# Altium schematic symbol library PEPLLIB.SchLib: 81 symbols
Pins are listed as number, name and electrical type; pins without a type are passive.

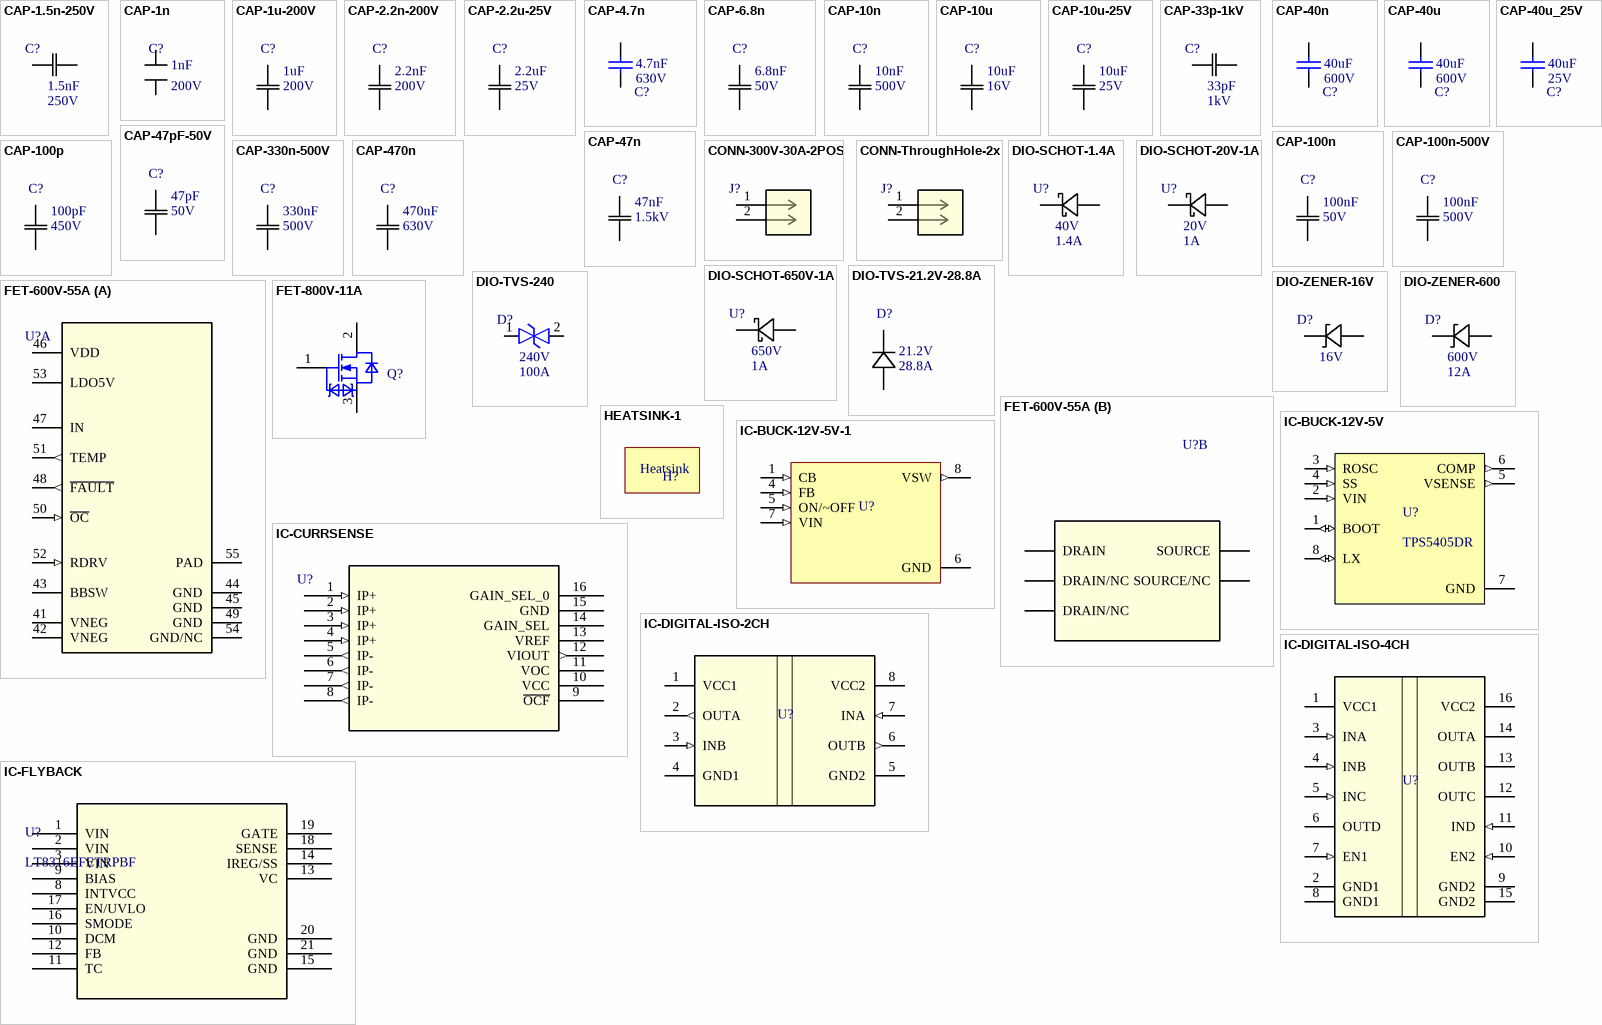
[diagram p0: symbols CAP-1.5n-250V to IC-FLYBACK]

## CAP-1.5n-250V
designator C?, comment Parameter 1: 1.5nF  Parameter 2: 250V  (hidden comment: C0603C152JAGACAUTO)
1500 pF ±5% 250V Ceramic Capacitor C0G, NP0 0603 (1608 Metric); Manufacturer_Name: Kemet; Manufacturer_Part_Number: C0805C330JDGACTU; Copyright: Copyright (C) 2025 Ultra Librarian. All rights reserved.; Datasheet: 1500 pF ±5% 250V Ceramic Capacitor C0G, NP0 0603 (1608 Metric)
footprint CAPC17595_92N_KEM
pins: 1, 2

## CAP-1n
designator C?, comment value 1nF  Parameter 1: 200V  (hidden comment: C1206C102J2GACTU)
1000 pF ±5% 200V Ceramic Capacitor C0G, NP0 1206 (3216 Metric); MF: KEMET; SnapEDA_Link: https://www.snapeda.com/parts/C1206C102J2GACTU/KEMET/view-part/?ref=snap; Package: 3216 KEMET; MP: C1206C102J2GACTU; Check_prices: https://www.snapeda.com/parts/C1206C102J2GACTU/KEMET/view-part/?ref=eda; ComponentLink1Description: Datasheet; ComponentLink1URL: https://search.kemet.com/download/datasheet/C1206C102J2GAC7800
footprint CAPC3216X88N
pins: 1, 2

## CAP-1u-200V
designator C?, comment Capacitance: 1uF  Voltage: 200V  (hidden comment: 18122C105KAT2A)
1 µF ±10% 200V Ceramic Capacitor X7R 1812 (4532 Metric); Mfr_Name: Yageo; ComponentLink1Description: Datasheet; ComponentLink1URL: https://datasheets.kyocera-avx.com/KGM_X7R.pdf
footprint CAPC4532X279N
pins: 1, 2

## CAP-2.2n-200V
designator C?, comment Capacitance: 2.2nF  Voltage: 200V  (hidden comment: C0603C222J2GACTU)
2200 pF ±5% 200V Ceramic Capacitor C0G, NP0 0603 (1608 Metric); Mfr_Name: Yageo; ComponentLink1Description: Datasheet; ComponentLink1URL: https://search.kemet.com/download/datasheet/C0603C222J2GAC7867
footprint CAPC17595_92N_KEM
pins: 1, 2

## CAP-2.2u-25V
designator C?, comment Capacitance: 2.2uF  Voltage: 25V  (hidden comment: GRM155R61E225KE11D)
2.2 µF ±10% 25V Ceramic Capacitor X5R 0402 (1005 Metric); Mfr_Name: Yageo; ComponentLink1Description: Datasheet; ComponentLink1URL: https://search.kemet.com/download/datasheet/C0603C222J2GAC7867
footprint CAPC1005X70N
pins: 1, 2

## CAP-4.7n
designator C?, comment Voltage: 630V  Capacitance: 4.7nF  (hidden comment: CC1206JKNPOZBN472)
4700 pF ±5% 630V Ceramic Capacitor C0G, NP0 1206 (3216 Metric); Manufacturer Part Number: 890764428004CS; Manufacturer: Wurth Elektronik; Match Code: WCAP-FTDB; Dissipation Factor @1kHz: 0.2%; Insulation Resistance: 250MOhm; Pitch: 37.5mm; Rate of Voltage Rise: 30V/us; Rated Voltage (DC): 600V; Technical Reference: MDBP375406J600DCPP15040; Category: Film Capacitors; ComponentLink2Description: Datasheet Link; ComponentLink2URL: https://www.yageo.com/upload/media/product/app/datasheet/mlcc/upy-np0x7r_hv_500v-to-3kv.pdf; Mount: Through Hole; Operating Temperature Max: 105°C; Operating Temperature Min: -40°C; Packaging: Carton; Length: 42mm; Width: 30mm; Height: 45mm
footprint CAPC3216X88N
pins: 1, 2

## CAP-6.8n
designator C?, comment Voltage: 50V  Capacitance: 6.8nF  (hidden comment: C0603C682F5GACTU)
6800 pF ±1% 50V Ceramic Capacitor C0G, NP0 0603 (1608 Metric); Mfr_Name: Kemet; ComponentLink1Description: Datasheet; ComponentLink1URL: https://search.kemet.com/download/datasheet/C0603C682F5GAC7867
footprint CAPC17595_87N_KEM
pins: 1, 2

## CAP-10n
designator C?, comment Capacitance: 10nF  Voltage: 500V  (hidden comment: VJ1206Y103KXEMT)
10000 pF ±10% 500V Ceramic Capacitor X7R 1206 (3216 Metric); Mfr_Name: Yageo; ComponentLink1Description: Datasheet; ComponentLink1URL: https://www.vishay.com/docs/45199/vjcommercialseries.pdf
footprint CAPC3216X170N (Footprint not found)
pins: 1, 2

## CAP-10u
designator C?, comment Voltage: 16V  Capacitance: 10uF  (hidden comment: GRM188C81C106MA73D)
10 µF ±20% 16V Ceramic Capacitor X6S 0603 (1608 Metric); Mfr_Name: Kemet; ComponentLink1Description: Datasheet; ComponentLink1URL: https://search.murata.co.jp/Ceramy/image/img/A01X/G101/ENG/GRM188C81C106MA73-01.pdf
footprint CAPC1608X100N
pins: 1, 2

## CAP-10u-25V
designator C?, comment Capacitance: 10uF  Voltage: 25V  (hidden comment: GRM188R61E106KA73D)
10 µF ±10% 25V Ceramic Capacitor X5R 0603 (1608 Metric); Mfr_Name: Yageo; ComponentLink1Description: Datasheet; ComponentLink1URL: https://search.murata.co.jp/Ceramy/image/img/A01X/G101/ENG/GRM188R61E106KA73-01.pdf
footprint CAPC1608X100N
pins: 1, 2

## CAP-33p-1kV
designator C?, comment Parameter 1: 33pF  Parameter 2: 1kV  (hidden comment: C0805C330JDGACTU)
SMD Comm C0G HV, Ceramic, 33 pF, 5%, 1000 VDC, C0G, SMD, MLCC, Ultra-Stable, Low Loss, Class I, 0805; Manufacturer_Name: Kemet; Copyright: Copyright (C) 2025 Ultra Librarian. All rights reserved.; Manufacturer_Part_Number: C0805C330JDGACTU; Datasheet: https://search.kemet.com/download/datasheet/C0805C330JDGAC7800
footprint CAPC220145_140N_KEM-L
pins: 1, 2

## CAP-40n
designator C?, comment Voltage: 600V  Capacitance: 40uF  (hidden comment: C4532C0G2E473J320KA)
0.047 µF ±5% 250V Ceramic Capacitor C0G, NP0 1812 (4532 Metric); Manufacturer Part Number: 890764428004CS; Manufacturer: Wurth Elektronik; Match Code: WCAP-FTDB; Dissipation Factor @1kHz: 0.2%; Insulation Resistance: 250MOhm; Pitch: 37.5mm; Rate of Voltage Rise: 30V/us; Technical Reference: MDBP375406J600DCPP15040; Category: Film Capacitors; ComponentLink2Description: Datasheet; ComponentLink2URL: https://product.tdk.com/en/system/files/dam/doc/product/capacitor/ceramic/mlcc/catalog/mlcc_commercial_midvoltage_en.pdf; Mount: Through Hole; Operating Temperature Max: 105°C; Operating Temperature Min: -40°C; Packaging: Carton; Length: 42mm; Width: 30mm; Height: 45mm; Rated Voltage (DC): 600V
footprint CAP_C4532C0G2E473J320KA
pins: 1, 2

## CAP-40u
designator C?, comment Voltage: 600V  Capacitance: 40uF  (hidden comment: 890764428004CS)
40 µF Film Capacitor 600V Polypropylene (PP), Metallized Radial - 4 Leads; Manufacturer: Wurth Elektronik; Match Code: WCAP-FTDB; Dissipation Factor @1kHz: 0.2%; Insulation Resistance: 250MOhm; Pitch: 37.5mm; Rate of Voltage Rise: 30V/us; Technical Reference: MDBP375406J600DCPP15040; Manufacturer Part Number: 890764428004CS; Category: Film Capacitors; ComponentLink1Description: Website Link; ComponentLink1URL: https://www.we-online.com/redexpert/article/890764428004CS?ad; ComponentLink2Description: Datasheet Link; ComponentLink2URL: https://www.we-online.com/redexpert/spec/890764428004CS?ad; Mount: Through Hole; Operating Temperature Max: 105°C; Operating Temperature Min: -40°C; Packaging: Carton; Length: 42mm; Width: 30mm; Height: 45mm; Rated Voltage (DC): 600V
footprint WCAP-FTDB_L42W30H45
simulation model 890764428004CS_40uF
pins: 1, 2

## CAP-40u_25V
designator C?, comment Voltage: 25V  Capacitance: 40uF  (hidden comment: C3216X5R1E476M160AC)
47 µF ±20% 25V Ceramic Capacitor X5R 1206 (3216 Metric); Manufacturer Part Number: 890764428004CS; Manufacturer: Wurth Elektronik; Match Code: WCAP-FTDB; Dissipation Factor @1kHz: 0.2%; Insulation Resistance: 250MOhm; Pitch: 37.5mm; Rate of Voltage Rise: 30V/us; Rated Voltage (DC): 600V; Technical Reference: MDBP375406J600DCPP15040; Category: Film Capacitors; ComponentLink2Description: Datasheet Link; ComponentLink2URL: https://product.tdk.com/system/files/dam/doc/product/capacitor/ceramic/mlcc/catalog/mlcc_commercial_general_en.pdf; Mount: Through Hole; Operating Temperature Max: 105°C; Operating Temperature Min: -40°C; Packaging: Carton; Length: 42mm; Width: 30mm; Height: 45mm
footprint CAPC3216X180N
pins: 1, 2

## CAP-47n
designator C?, comment Voltage: 1.5kV  Capacitance: 47nF  (hidden comment: C330C473KFR5TA)
0.047 µF ±10% 1500V (1.5kV) Ceramic Capacitor X7R Radial; Mfr_Name: Kemet; ComponentLink1Description: Datasheet; ComponentLink1URL: https://search.kemet.com/download/datasheet/C330C473KFR5TA
footprint CAP_C330_MR_X7R_HV_KEM
pins: 1, 2

## CAP-47pF-50V
designator C?, comment Capacitance: 47pF  Voltage: 50V  (hidden comment: C0402C470F5GACTU)
47 pF ±1% 50V Ceramic Capacitor C0G, NP0 0402 (1005 Metric); Mfr_Name: Yageo; ComponentLink1Description: Datasheet; ComponentLink1URL: https://search.kemet.com/download/datasheet/C0402C470F5GAC7867
footprint CAPC10555_55N_KEM
pins: 1, 2

## CAP-100n
designator C?, comment Capacitance: 100nF  Voltage: 50V  (hidden comment: CC0603KRX7R9BB104)
0.1 µF ±10% 50V Ceramic Capacitor X7R 0603 (1608 Metric); Mfr_Name: Yageo; ComponentLink1Description: Datasheet; ComponentLink1URL: https://www.yageo.com/upload/media/product/productsearch/datasheet/mlcc/UPY-GPHC_X7R_6.3V-to-250V_24.pdf
footprint YAG_CC0603_YAG
pins: 1, 2

## CAP-100n-500V
designator C?, comment Capacitance: 100nF  Voltage: 500V  (hidden comment: C1210C104KCRACTU)
0.1 µF ±10% 500V Ceramic Capacitor X7R 1210 (3225 Metric); Mfr_Name: Yageo; ComponentLink1Description: Datasheet; ComponentLink1URL: https://search.kemet.com/download/datasheet/C1210C104KCRAC7800
footprint CAPC340270_230N_KEM
pins: 1, 2

## CAP-100p
designator C?, comment Capacitance: 100pF  Voltage: 450V  (hidden comment: C2012C0G2W101J060AA)
100 pF ±5% 450V Ceramic Capacitor C0G, NP0 0805 (2012 Metric); Mfr_Name: Yageo; ComponentLink1Description: Datasheet; ComponentLink1URL: https://product.tdk.com/system/files/dam/doc/product/capacitor/ceramic/mlcc/catalog/mlcc_commercial_midvoltage_en.pdf
footprint CAP_2012_TDK
pins: 1, 2

## CAP-330n-500V
designator C?, comment Capacitance: 330nF  Voltage: 500V  (hidden comment: C1812C334KCRACAUTO)
0.33 µF ±10% 500V Ceramic Capacitor X7R 1812 (4532 Metric); Mfr_Name: Yageo; ComponentLink1Description: Datasheet; ComponentLink1URL: https://search.kemet.com/download/datasheet/C1812C334KCRACAUTO
footprint CAPC480350_230N_KEM
pins: 1, 2

## CAP-470n
designator C?, comment Voltage: 630V  Capacitance: 470nF  (hidden comment: GRM55DR7LV474KW01K)
0.47 µF ±10% 630V Ceramic Capacitor X7R 2220 (5750 Metric); Mfr_Name: Kemet; ComponentLink1Description: Datasheet; ComponentLink1URL: https://search.murata.co.jp/Ceramy/image/img/A01X/G101/ENG/GRM55DR7LV474KW01-00B.pdf
footprint G-55_MUR
pins: 1, 2

## CONN-300V-30A-2POS
designator J?, comment 393800102  (value not drawn)
6.35mm Pitch Beau Eurostyle Fixed Mount PCB Terminal Block, Modular, 2 Circuits; Manufacturer_Name: Molex Connector Corporation; Type: Headers, Plugs and Sockets; Copyright: Copyright (C) 2025 Ultra Librarian. All rights reserved.; Manufacturer_Part_Number: 393800102; Datasheet: https://www.molex.com/en-us/products/part-detail-pdf/393800102?display=pdf; RefDes: RefDes
footprint CONN2_0393800102_524x492_MOL
pins: 1, 2

## CONN-ThroughHole-2x
designator J?, comment Custom  (value not drawn)
1.07mm Hole Diameter; Manufacturer_Name: Molex Connector Corporation; Manufacturer_Part_Number: 393800102; Type: Headers, Plugs and Sockets; Copyright: Copyright (C) 2025 Ultra Librarian. All rights reserved.; Datasheet: https://www.molex.com/en-us/products/part-detail-pdf/393800102?display=pdf; RefDes: RefDes
footprint CONN-THROUGHHOLE
pins: 1, 2

## DIO-SCHOT-1.4A
designator U?, comment Parameter 1: 40V  Parameter 2: 1.4A  (hidden comment: CDBA140SL-HF)
Diode 40 V 1.4A Surface Mount DO-214AC (SMA); Mfr_Name: Comchip; ComponentLink1Description: Datasheet; ComponentLink1URL: https://www.comchiptech.com/admin/files/product/CDBA140SL-HF%20RevD951086.pdf
footprint CDBA-HF
pins: 1, 2

## DIO-SCHOT-20V-1A
designator U?, comment Parameter 1: 20V  Parameter 2: 1A  (hidden comment: SK12)
Diode 20 V 1A Surface Mount DO-214AC (SMA); Mfr_Name: Comchip; ComponentLink1Description: Datasheet; ComponentLink1URL: https://diotec.com/request/datasheet/sk12.pdf
footprint DO-214AC_SMA
pins: a, k

## DIO-SCHOT-650V-1A
designator U?, comment Parameter 1: 650V  Parameter 2: 1A  (hidden comment: GB01SLT06-214)
Diode 650 V 1A Surface Mount DO-214AA; Mfr_Name: Comchip; ComponentLink1Description: Datasheet; ComponentLink1URL: https://genesicsemi.com/sic-schottky-mps/GB01SLT06-214/GB01SLT06-214.pdf
footprint DIO-SHOT-650V-1A
pins: 1, 2

## DIO-TVS-21.2V-28.8A
designator D?, comment Parameter 1: 21.2V  Parameter 2: 28.8A  (hidden comment: P6SMB15A)
21.2V Clamp 28.8A Ipp Tvs Diode Surface Mount DO-214AA (SMB); Mfr_Name: Littelfuse Inc; ComponentLink1Description: Datasheet; ComponentLink1URL: https://www.bourns.com/docs/Product-Datasheets/P6SMB.pdf
footprint P6SMBSeries_LTF
pins: 1, 2

## DIO-TVS-240
designator D?, comment Standoff Voltage: 240V  Current Rating: 100A  (hidden comment: PTVS1-240C-M)
295V (Typ) Clamp 100A Ipp Tvs Diode Surface Mount; ComponentLink1Description: Datasheet; ComponentLink1URL: https://www.bourns.com/docs/product-datasheets/ptvs1-240c-m.pdf
footprint DIO-SOD128
pins: 1, 2

## DIO-ZENER-16V
designator D?, comment Parameter 2: 16V  (hidden comment: MM3Z16VT1G)
Zener Diode 16 V 300 mW ±6% Surface Mount SOD-323; Mfr_Name: STMicroelectronics; ComponentLink1Description: Datasheet; ComponentLink1URL: SOD-323_1P8X1P35_ONS-L
footprint SOD-323_1P8X1P35_ONS-L
pins: 1 A, 2 K

## DIO-ZENER-600
designator D?, comment Parameter 2: 12A  Parameter 1: 600V  (hidden comment: STTH12R06D)
Diode 600 V 12A Through Hole TO-220AC; Mfr_Name: STMicroelectronics; ComponentLink1Description: Datasheet; ComponentLink1URL: https://www.st.com/content/ccc/resource/technical/document/datasheet/cb/a3/4c/74/1c/4a/40/56/CD00002494.pdf/files/CD00002494.pdf/jcr:content/translations/en.CD00002494.pdf
footprint TO-220AC_STM
pins: 1 K, 2 A

## FET-600V-55A
designator U?, comment LMG3422R030RQZT  (value not drawn)
Power Switch/Driver 1:1 N/P-Channel 40A 54-VQFN (12x12); Mfr_Name: Texas Instruments; TYPE: TYPE; RefDes: RefDes; ComponentLink1Description: Datasheet; ComponentLink1URL: https://www.ti.com/lit/ds/symlink/lmg3422r030.pdf
footprint RQZ0054A-MFG
part A pins: 41 VNEG, 42 VNEG, 43 BBSW, 44 GND (power), 45 GND (power), 46 VDD (power), 47 IN (power), 48 ~{FAULT} (out), 49 GND (power), 50 ~{OC} (in), 51 TEMP (out), 52 RDRV (in), 53 LDO5V, 54 GND/NC (power), 55 PAD (power)
part B pins: 1 DRAIN/NC, 2,3,4,5,6,7,8,9,10,11,12,13,14,15 DRAIN, 16 DRAIN/NC, 17 SOURCE/NC, 18,19,20,21,22,23,24,25,26,27,28,29,30,31,32,33,34,35,36,37,38,39,40 SOURCE

## FET-800V-11A
designator Q?, comment IPD80R450P7  (value not drawn)
Insulated-Gate Field-Effect Transistor (IGFET), N-Channel, Enhancement, Body Diode, ESD Diode Gate/Source, Pin 1 Gate, 2 Drain, 3 Source, 3 Pins; Manufacturer: Infineon Technologies; PackageReference: PG-TO252-3-342; Manufacturer Order Number: IPD80R450P7; ComponentLink1Description: Datasheet; ComponentLink1URL: https://www.infineon.com/dgdl/Infineon-IPD80R450P7-DS-v02_00-EN.pdf?fileId=5546d4625607bd1301562e3b26963327
footprint TO229P994X256-3N-V (TO,2.29mm pitch;2 pin,9.94mm L X 6.095mm W X 2.56mm H body)
pins: 1 GATE, 2 DRAIN, 3 SOURCE

## HEATSINK-1
designator H?  (value not drawn)
footprint Heatsink-1 (DCC5923L-23B)
text: Heatsink

## IC-BUCK-12V-5V
designator U?, comment TPS5405DR
6.5V to 28V Input, 5V Fixed Output at 2A Step-Down Regulator with Intregrated MosFET; MF: Texas Instruments; SnapEDA_Link: https://www.snapeda.com/parts/TPS5405DR/Texas+Instruments/view-part/?ref=snap; Package: SOIC-8 Texas Instruments; Value: *; MP: TPS5405DR; Check_prices: https://www.snapeda.com/parts/TPS5405DR/Texas+Instruments/view-part/?ref=eda; ComponentLink1Description: Datasheet; ComponentLink1URL: https://www.ti.com/general/docs/suppproductinfo.tsp?distId=10&gotoUrl=https%3A%2F%2Fwww.ti.com%2Flit%2Fgpn%2Ftps5405
footprint SOIC127P599X175-8N
pins: 1 BOOT (io), 2 VIN (in), 3 ROSC (in), 4 SS (in), 5 VSENSE (out), 6 COMP (out), 7 GND (power), 8 LX (io)

## IC-BUCK-12V-5V-1
designator U?, comment LM2674MX-5.0/NOPB  (value not drawn)
SIMPLE SWITCHER&reg; 40V, 500mA Low Component Count Step-Down Regulator 8-SOIC -40 to 125; MF: Texas Instruments; MP: LM2674MX-5.0/NOPB; Price: None; Purchase-URL: https://pricing.snapeda.com/search/part/LM2674MX-5.0/NOPB/?ref=eda; Package: SOIC-8 Texas Instruments; Check_prices: https://www.snapeda.com/parts/LM2674MX-5.0/NOPB/Texas%20Instruments/view-part/1037916/?ref=eda; Value: *; Availability: Good; SnapEDA_Link: https://www.snapeda.com/parts/LM2674MX-5.0/NOPB/Texas%20Instruments/view-part/1037916/?ref=snap; ComponentLink1Description: Datasheet; ComponentLink1URL: https://www.ti.com/general/docs/suppproductinfo.tsp?distId=10&gotoUrl=https%3A%2F%2Fwww.ti.com%2Flit%2Fgpn%2Flm2674
footprint SOIC127P490X175-8N
pins: 1 CB (in), 4 FB (in), 5 ON/~OFF (in), 6 GND (power), 7 VIN (in), 8 VSW (out)

## IC-CURRSENSE
designator U?, comment ACS37002LLAATR-015B3  (value not drawn)
Current Sensor 15A 1 Channel Hall Effect Bidirectional 16-SOIC (0.295", 7.50mm Width); Mfr_Name: Allegro Microsystems Inc.; RefDes: RefDes; Type: Type; ComponentLink1Description: Datasheet; ComponentLink1URL: https://www.allegromicro.com/-/media/files/datasheets/acs37002-datasheet.pdf
footprint SOIC_TR-050B5_ALM
pins: 1 IP+ (in), 2 IP+ (in), 3 IP+ (in), 4 IP+ (in), 5 IP- (out), 6 IP- (out), 7 IP- (out), 8 IP- (out), 9 ~{OCF}, 10 VCC (power), 11 VOC, 12 VIOUT (out), 13 VREF (power), 14 GAIN_SEL, 15 GND (power), 16 GAIN_SEL_0

## IC-DIGITAL-ISO-2CH
designator U?, comment ISO7721FQDRQ1  (value not drawn)
General Purpose Digital Isolator 3000Vrms 2 Channel 100Mbps 85kV/µs CMTI 8-SOIC (0.154", 3.90mm Width); Mfr_Name: Texas Instruments; TYPE: TYPE; RefDes: RefDes; ComponentLink1Description: Datasheet; ComponentLink1URL: https://www.ti.com/general/docs/suppproductinfo.tsp?distId=10&gotoUrl=https%3A%2F%2Fwww.ti.com%2Flit%2Fgpn%2Fiso7720-q1
footprint D0008B_HV
pins: 1 VCC1 (power), 2 OUTA (out), 3 INB (in), 4 GND1 (power), 5 GND2 (power), 6 OUTB (out), 7 INA (in), 8 VCC2 (power)

## IC-DIGITAL-ISO-4CH
designator U?, comment ISO7741FDBQR  (value not drawn)
General Purpose Digital Isolator 3000Vrms 4 Channel 100Mbps 85kV/µs CMTI 16-SSOP (0.154", 3.90mm Width); Mfr_Name: Texas Instruments; TYPE: TYPE; RefDes: RefDes; ComponentLink1Description: Datasheet; ComponentLink1URL: https://www.ti.com/general/docs/suppproductinfo.tsp?distId=10&gotoUrl=https%3A%2F%2Fwww.ti.com%2Flit%2Fgpn%2Fiso7742
footprint DBQ0016A_L
pins: 1 VCC1 (power), 2 GND1 (power), 3 INA (in), 4 INB (in), 5 INC (in), 6 OUTD (hiz), 7 EN1 (in), 8 GND1 (power), 9 GND2 (power), 10 EN2 (in), 11 IND (in), 12 OUTC (hiz), 13 OUTB (hiz), 14 OUTA (hiz), 15 GND2 (power), 16 VCC2 (power)

## IC-FLYBACK
designator U?, comment LT8316EFETRPBF
Buck, Boost, Flyback Regulator Positive Output Step-Up, Step-Down DC-DC Controller IC 20-TSSOP-EP; Mfr_Name: Analog Devices Inc; Type: Power Management; RefDes: RefDes; ComponentLink1Description: Datasheet; ComponentLink1URL: https://www.analog.com/media/en/technical-documentation/data-sheets/LT8316.pdf
footprint 05-08-1990_ADI
pins: 1 VIN (power), 2 VIN (power), 3 VIN (power), 8 INTVCC (power), 9 BIAS (power), 10 DCM, 11 TC, 12 FB, 13 VC, 14 IREG/SS, 15 GND (power), 16 SMODE, 17 EN/UVLO, 18 SENSE, 19 GATE (power), 20 GND (power), 21 GND (power)

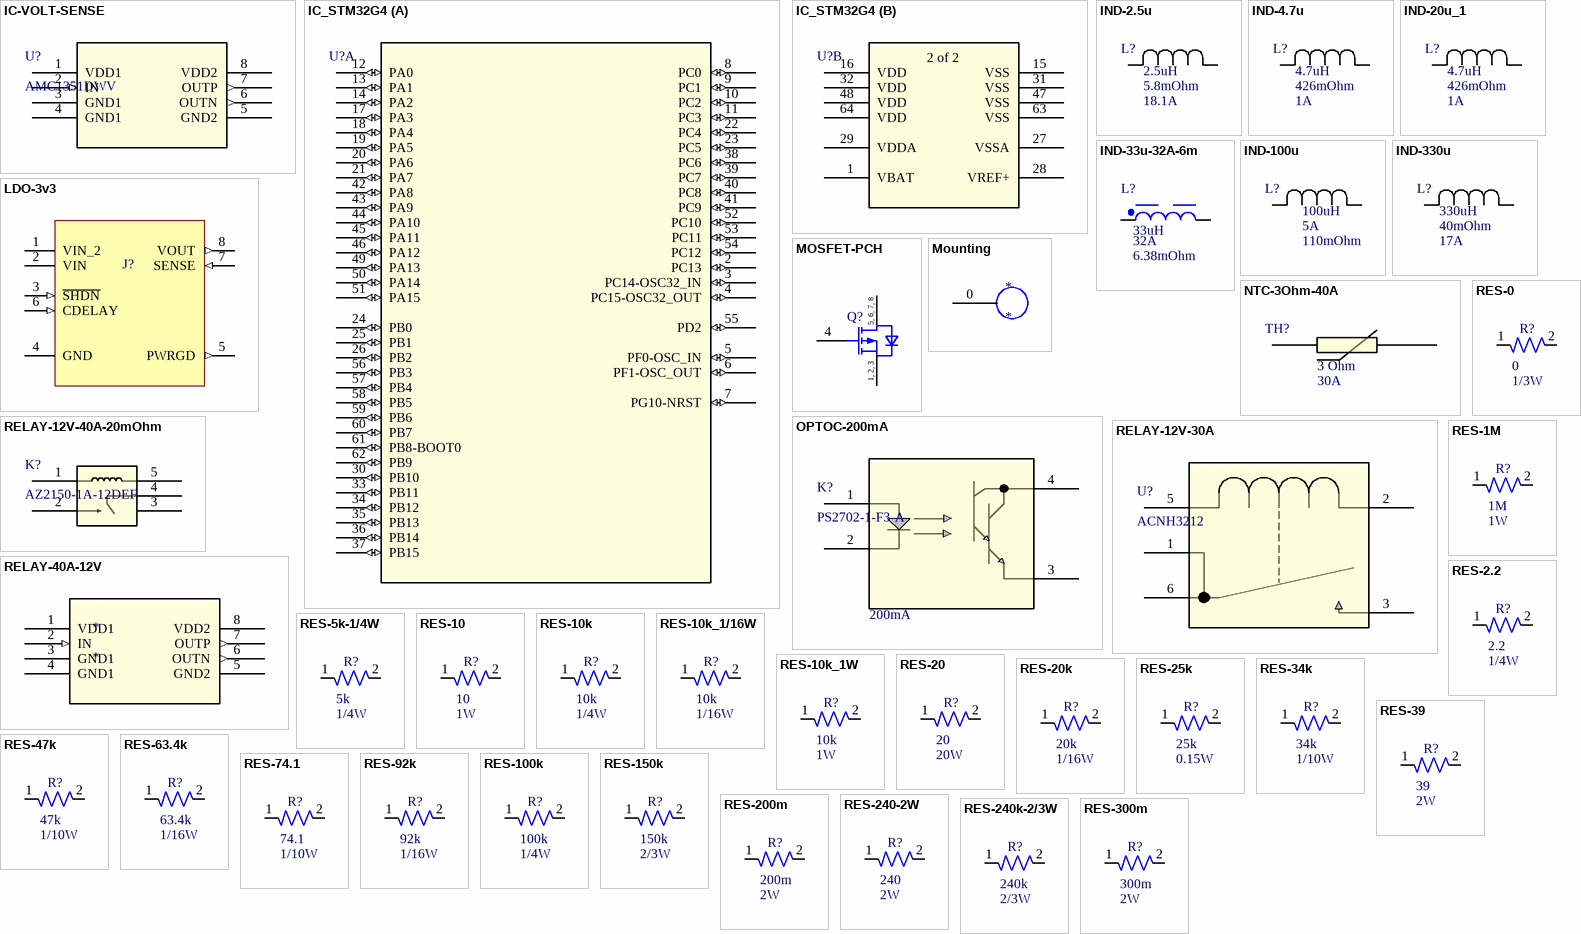
[diagram p1: symbols IC-VOLT-SENSE to RES-300m]

## IC-VOLT-SENSE
designator U?, comment AMC1351DWV
0-V to 5-V input, precision voltage sensing reinforced isolated amplifier 8-SOIC -40 to 125; Manufacturer_Name: Texas Instruments; Type: Linear; Copyright: Copyright (C) 2025 Ultra Librarian. All rights reserved.; Manufacturer_Part_Number: AMC1351DWV; Datasheet: https://www.ti.com/lit/gpn/amc1351; RefDes: RefDes; ComponentLink1Description: https://mm.digikey.com/Volume0/opasdata/d220001/medias/docus/6130/amc1351.pdf; ComponentLink1URL: *
footprint SOIC8_DWV_TEX-M
pins: 1 VDD1 (power), 2 IN (in), 3 GND1 (power), 4 GND1 (power), 5 GND2 (power), 6 OUTN (out), 7 OUTP (out), 8 VDD2 (power)

## IC_STM32G4
designator U?, comment STM32G474RET6  (value not drawn)
ARM® Cortex®-M4F STM32G4 Microcontroller IC 32-Bit Single-Core 170MHz 512KB (512K x 8) FLASH 64-LQFP (10x10); Mfr_Name: STMicroelectronics; RefDes: RefDes; Type: Type; ComponentLink1Description: Datasheet; ComponentLink1URL: https://www.st.com/resource/en/datasheet/stm32g474cb.pdf
footprint LQFP64-10x10mm
part A pins: 2 PC13 (io), 3 PC14-OSC32_IN (io), 4 PC15-OSC32_OUT (io), 5 PF0-OSC_IN (io), 6 PF1-OSC_OUT (io), 7 PG10-NRST (io), 8 PC0 (io), 9 PC1 (io), 10 PC2 (io), 11 PC3 (io), 12 PA0 (io), 13 PA1 (io), 14 PA2 (io), 17 PA3 (io), 18 PA4 (io), 19 PA5 (io), 20 PA6 (io), 21 PA7 (io), 22 PC4 (io), 23 PC5 (io), 24 PB0 (io), 25 PB1 (io), 26 PB2 (io), 30 PB10 (io), 33 PB11 (io), 34 PB12 (io), 35 PB13 (io), 36 PB14 (io), 37 PB15 (io), 38 PC6 (io), 39 PC7 (io), 40 PC8 (io), 41 PC9 (io), 42 PA8 (io), 43 PA9 (io), 44 PA10 (io), 45 PA11 (io), 46 PA12 (io), 49 PA13 (io), 50 PA14 (io), 51 PA15 (io), 52 PC10 (io), 53 PC11 (io), 54 PC12 (io), 55 PD2 (io), 56 PB3 (io), 57 PB4 (io), 58 PB5 (io), 59 PB6 (io), 60 PB7 (io), 61 PB8-BOOT0 (io), 62 PB9 (io)
part B pins: 1 VBAT (power), 15 VSS (power), 16 VDD (power), 27 VSSA (power), 28 VREF+ (power), 29 VDDA (power), 31 VSS (power), 32 VDD (power), 47 VSS (power), 48 VDD (power), 63 VSS (power), 64 VDD (power)
part B text: 2 of 2

## IND-2.5u
designator L?, comment Parameter 1: 2.5uH  Parameter 2: 5.8mOhm  Parameter 3: 18.1A  (hidden comment: ETQ-P5M2R5YFC)
2.5 µH Shielded Drum Core, Wirewound Inductor 18.1 A 5.9mOhm Max 2-SMD, J-Lead; Mfr_Name: Panasonic; ComponentLink1Description: Datasheet; ComponentLink1URL: https://industrial.panasonic.com/cdbs/www-data/pdf/AGL0000/AGL0000C59.pdf
footprint IND_ETQP5_YFC_PAN
pins: 1, 2

## IND-4.7u
designator L?, comment Parameter 1: 4.7uH  Parameter 2: 426mOhm  Parameter 3: 1A  (hidden comment: B82559A0203A024)
4.7 µH Shielded Inductor 1 A 426mOhm Max 0806 (2016 Metric); ComponentLink1Description: Datasheet; ComponentLink1URL: https://www.cyntec.com/upfile/products/download/SDEM20161T-000%20(A4).pdf
footprint IND-4.7uH
pins: 1, 2

## IND-20u_1
designator L?, comment Parameter 1: 4.7uH  Parameter 2: 426mOhm  Parameter 3: 1A  (hidden comment: B82559A0203A024)
20 µH Shielded Drum Core, Wirewound Inductor 24 A 3.4mOhm Nonstandard, 3 Lead; Mfr_Name: Panasonic; ComponentLink1Description: Datasheet; ComponentLink1URL: https://www.cyntec.com/upfile/products/download/SDEM20161T-000%20(A4).pdf
footprint IND-20u
pins: 1, 2

## IND-33u-32A-6m
designator L?, comment Parameter 1: 6.38mOhm  Parameter 2: 32A  Parameter 3: 33uH  (hidden comment: 7443763540330)
WE-HCFT THT High Current Inductor, size 3540, 33µH, 32A; Manufacturer: Wurth Elektronik; Case/Size Code: 3540; DC Resistance: 5.67mΩ; DC Resistance Max: 6.38mΩ; Inductance Tolerance: 20%; Saturation Current: 38.9A; Self Resonant Frequency: 7MHz; Manufacturer Part Number: 7443763540330; Category: Power Inductors; Match Code: WE-HCFT; ComponentLink1Description: Website Link; ComponentLink1URL: https://www.we-online.com/redexpert/article/7443763540330?ad; ComponentLink2Description: Datasheet Link; ComponentLink2URL: https://www.we-online.com/redexpert/spec/7443763540330?ad; Mount: Through Hole; Min Operating Temperature: -40°C; Max Operating Temperature: 125°C; Packaging: Tray; Length: 36mm; Width: 41mm; Height: 35mm; Inductance: 33µH; Rated Current: 32A
footprint WE-HCFT_3540_7443763540330
simulation model 3540_7443763540330_33u
pins: 1, 2

## IND-100u
designator L?, comment Parameter 3: 110mOhm  Parameter 1: 100uH  Parameter 2: 5A  (hidden comment: IHLP6767GZER101M11)
IHLP-6767GZ-11 100 20% ER E3; Manufacturer_Name: Vishay; Copyright: Copyright (C) 2025 Ultra Librarian. All rights reserved.; Manufacturer_Part_Number: IHLP6767GZER101M11; Datasheet: https://www.vishay.com/doc?34282
footprint IND_IHLP-6767GZ_VIS
pins: 1, 2

## IND-330u
designator L?, comment Parameter 1: 330uH  Parameter 2: 40mOhm  Parameter 3: 17A  (hidden comment: RL-1256-6-330)
330 µH Unshielded Wirewound Inductor 17 A 40mOhm Max Radial, Vertical Cylinder; Mfr_Name: Panasonic; ComponentLink1Description: Datasheet; ComponentLink1URL: https://www.rencousa.com/sites/default/files/productfamilies/pdfs/RL-1256_0.pdf
footprint FilterInd330uH
pins: 1, 2

## LDO-3v3
designator J?, comment MCP1727T-3302E/SN  (value not drawn)
Linear Voltage Regulator IC Positive Fixed 1 Output 1.5A 8-SOIC; Package: None; Price: None; Value: *; MP: MCP1727T-3302E/SN; Availability: Unavailable; ComponentLink1Description: Datasheet; ComponentLink1URL: https://ww1.microchip.com/downloads/en/DeviceDoc/21999b.pdf
footprint SOIC127P490X175-8N
pins: 1 VIN_2 (power), 2 VIN (power), 3 ~{SHDN} (in), 4 GND, 5 PWRGD (out), 6 CDELAY (in), 7 SENSE (in), 8 VOUT (out)

## MOSFET-PCH
designator Q?, comment BSC030P03NS3 G  (value not drawn)
P-Channel 30 V 25.4A (Ta), 100A (Tc) 2.5W (Ta), 125W (Tc) Surface Mount PG-TDSON-8-1; Manufacturer: Infineon Technologies; Manufacturer Order Number: BSC030P03NS3 G; PackageReference: PG-TDSON-8-1; ComponentLink1Description: Datasheet; ComponentLink1URL: https://www.infineon.com/dgdl/BSC030P03NS3+G_2.0.pdf?folderId=db3a304314dca38901154a72e3951a65&fileId=db3a30431d8a6b3c011d90d084910435
footprint IFX-PG-TDSON-8-5-V (TDSON 8, SMD, 1.27 mm Pitch, 8 Pin, 5.90 mm L X 5.15 mm W X 1.00 mm H body)
pins: 1 SOURCE, 2 SOURCE, 3 SOURCE, 4 Gate, 5 DRAIN, 6 DRAIN, 7 DRAIN, 8 DRAIN
text: 5, 6, 7, 8; 1, 2, 3

## Mounting
designator *
footprint Mounting
pins: 0

## NTC-3Ohm-40A
designator TH?, comment Parameter 2: 30A  Parameter 1: 3 Ohm  (hidden comment: MS35 3R030)
Inrush Current Limiter 3 Ohms 30 A 1.378" (35.00mm); Manufacturer_Name: Ametherm; Copyright: Copyright (C) 2025 Ultra Librarian. All rights reserved.; Manufacturer_Part_Number: MS35 3R030; ComponentLink1Description: Datasheet; ComponentLink1URL: https://www.ametherm.com/datasheetspdf/MS353R030.pdf
footprint MS35 3R030_AMT
pins: 1, 2

## OPTOC-200mA
designator K?, comment PS2702-1-F3-A  Parameter 1: 200mA
Optoisolator Darlington Output 3750Vrms 1 Channel 4-SOP; Manufacturer_Name: Renesas Electronics; Copyright: Copyright (C) 2025 Ultra Librarian. All rights reserved.; Manufacturer_Part_Number: PS2702-1-F3-A; RefDes: RefDes; Type: Type; ComponentLink1Description: Datasheet; ComponentLink1URL: https://www.renesas.com/us/en/document/dst/ps2702-1-data-sheet-0
footprint SO4_PS2702-1_REN-M
pins: 1, 2, 3, 4

## RELAY-12V-30A
designator U?, comment ACNH3212
RELAY AUTOMOTIVE SPST 30A 12V; Manufacturer_Name: Panasonic; Copyright: Copyright (C) 2025 Ultra Librarian. All rights reserved.; Manufacturer_Part_Number: ACNH3212; RefDes: RefDes; Type: Type; ComponentLink1Description: Datasheet; ComponentLink1URL: https://api.pim.na.industrial.panasonic.com/file_stream/main/fileversion/246796
footprint RELAY_ACNH_PAN
pins: 1 4, 2 Coil+, 3, 5 Coil-, 6 2

## RELAY-12V-40A-20mOhm
designator K?, comment AZ2150-1A-12DEF
General Purpose Relay SPST-NO (1 Form A) 12VDC Coil Through Hole; Manufacturer_Name: American Zettler; Copyright: Copyright (C) 2025 Ultra Librarian. All rights reserved.; Manufacturer_Part_Number: AZ2150-1A-12DEF; RefDes: RefDes; Type: Type; ComponentLink1Description: Datasheet; ComponentLink1URL: https://www.azettler.com/pdfs/AZ2150.pdf
footprint AZ2150_AMZ
pins: 1, 2, 3, 4, 5

## RELAY-40A-12V
designator *
pins: 1 VDD1 (power), 2 IN (in), 3 GND1 (power), 4 GND1 (power), 5 GND2 (power), 6 OUTN (out), 7 OUTP (out), 8 VDD2 (power)

## RES-0
designator R?, comment Resistance: 0  Power: 1/3W  (hidden comment: CRCW06030000Z0EAHP)
0 Ohms Jumper Chip Resistor 0603 (1608 Metric) Automotive AEC-Q200, Pulse Withstanding Thick Film; ComponentLink1Description: Datasheet; ComponentLink1URL: https://www.vishay.com/docs/20043/crcwhpe3.pdf
footprint RC0603N_VIS
pins: 1, 2

## RES-1M
designator R?, comment Resistance: 1M  Power: 1W  (hidden comment: VR68000001004JAC00)
1 MOhms ±5% 1W Through Hole Resistor Axial High Voltage, Pulse Withstanding Metal Film; ComponentLink1Description: Datasheet; ComponentLink1URL: https://www.vishay.com/docs/28907/vr25vr37vr68.pdf
footprint RES_VR68
pins: 1, 2

## RES-2.2
designator R?, comment Resistance: 2.2  Power: 1/4W  (hidden comment: RC1206JR-072R2L)
2.2 Ohms ±5% 0.25W, 1/4W Chip Resistor 1206 (3216 Metric) Moisture Resistant Thick Film; ComponentLink1Description: Datasheet; ComponentLink1URL: https://www.yageo.com/upload/media/product/products/datasheet/rchip/PYu-RC_Group_51_RoHS_L_12.pdf
footprint RC1206N_YAG
pins: 1, 2

## RES-5k-1/4W
designator R?, comment Resistance: 5k  Power: 1/4W  (hidden comment: RT1206BRD075KL)
5 kOhms ±0.1% 0.25W, 1/4W Chip Resistor 1206 (3216 Metric) Thin Film; ComponentLink1Description: Datasheet; ComponentLink1URL: https://www.yageo.com/upload/media/product/app/datasheet/rchip/pyu-rt_1-to-0.01_rohs_l.pdf
footprint RESC3116X65N
pins: 1, 2

## RES-10
designator R?, comment Resistance: 10  Power: 1W  (hidden comment: RC2512FK-0710RL)
10 Ohms ±1% 1W Chip Resistor 2512 (6332 Metric) Moisture Resistant Thick Film; ComponentLink1Description: Datasheet; ComponentLink1URL: https://www.yageo.com/upload/media/product/products/datasheet/rchip/PYu-RC_Group_51_RoHS_L_12.pdf
footprint RESC6331X65N
pins: 1, 2

## RES-10k
designator R?, comment Resistance: 10k  Power: 1/4W  (hidden comment: YR1B10KCC)
10 kOhms ±0.1% 0.25W, 1/4W Through Hole Resistor Axial Metal Film; ComponentLink1Description: Datasheet; ComponentLink1URL: https://www.te.com/usa-en/product-1622796-6.datasheet.pdf
footprint RES_TYCO_YR1_TYC
pins: 1, 2

## RES-10k_1/16W
designator R?, comment Resistance: 10k  Power: 1/16W  (hidden comment: CRCW040210K0FKED)
10 kOhms ±1% 0.063W, 1/16W Chip Resistor 0402 (1005 Metric) Automotive AEC-Q200 Thick Film; ComponentLink1Description: Datasheet; ComponentLink1URL: https://www.vishay.com/docs/20035/dcrcwe3.pdf
footprint RESC1005X40N
pins: 1, 2

## RES-10k_1W
designator R?, comment Resistance: 10k  Power: 1W  (hidden comment: CRCW201010K0JNEFHP)
10 kOhms ±5% 1W Chip Resistor 2010 (5025 Metric) Automotive AEC-Q200, Pulse Withstanding Thick Film; ComponentLink1Description: Datasheet; ComponentLink1URL: https://www.vishay.com/docs/20043/crcwhpe3.pdf
footprint RESC5025X70N (Footprint not found)
pins: 1, 2

## RES-20
designator R?, comment Resistance: 20  Power: 20W  (hidden comment: SQP20AJB-20R)
20 Ohms ±5% 20W Through Hole Resistor Axial Flame Proof, Pulse Withstanding, Safety Cement; ComponentLink1Description: Datasheet; ComponentLink1URL: https://www.yageo.com/upload/media/product/productsearch/datasheet/lr/YAGEO%20SQP_NSP_datasheet_2024v4.pdf
footprint RES-1W-THRHOLE
pins: 1, 2

## RES-20k
designator R?, comment Resistance: 20k  Power: 1/16W  (hidden comment: ERA-2AEB203X)
20 kOhms ±0.1% 0.063W, 1/16W Chip Resistor 0402 (1005 Metric) Automotive AEC-Q200 Thin Film; ComponentLink1Description: Datasheet; ComponentLink1URL: https://industrial.panasonic.com/cdbs/www-data/pdf/RDM0000/AOA0000C307.pdf
footprint RESC1005X40N
pins: 1, 2

## RES-25k
designator R?, comment Resistance: 25k  Power: 0.15W  (hidden comment: PNM0603E2502BST5)
25 kOhms ±0.1% 0.15W Chip Resistor 0603 (1608 Metric) Anti-Sulfur, Moisture Resistant, Non-Inductive, Non-Magnetic Thin Film; ComponentLink1Description: Datasheet; ComponentLink1URL: https://www.vishay.com/docs/60057/pnm.pdf
footprint 0603_VIS
pins: 1, 2

## RES-34k
designator R?, comment Resistance: 34k  Power: 1/10W  (hidden comment: ERJ-2RKF3402X)
34 kOhms ±1% 0.1W, 1/10W Chip Resistor 0402 (1005 Metric) Automotive AEC-Q200 Thick Film; ComponentLink1Description: Datasheet; ComponentLink1URL: https://industrial.panasonic.com/cdbs/www-data/pdf/RDA0000/AOA0000C304.pdf
footprint RES_ERJ2RKF3402X
pins: 1, 2

## RES-39
designator R?, comment Resistance: 39  Power: 2W  (hidden comment: CRGP2512F39R)
39 Ohms ±1% 2W Chip Resistor 2512 (6332 Metric) Pulse Withstanding Thick Film; ComponentLink1Description: Datasheet; ComponentLink1URL: https://www.te.com/usa-en/product-2176331-8.datasheet.pdf
footprint RESC6332X65N
pins: 1, 2

## RES-47k
designator R?, comment Resistance: 47k  Power: 1/10W  (hidden comment: ERJ-2RKF4702X)
47 kOhms ±1% 0.1W, 1/10W Chip Resistor 0402 (1005 Metric) Automotive AEC-Q200 Thick Film; ComponentLink1Description: Datasheet; ComponentLink1URL: https://industrial.panasonic.com/cdbs/www-data/pdf/RDA0000/AOA0000C304.pdf
footprint RES_ERJ2RKF4702X
pins: 1, 2

## RES-63.4k
designator R?, comment Resistance: 63.4k  Power: 1/16W  (hidden comment: RC0402FR-0763K4L)
63.4 kOhms ±1% 0.063W, 1/16W Chip Resistor 0402 (1005 Metric) Moisture Resistant Thick Film; ComponentLink1Description: Datasheet; ComponentLink1URL: https://www.yageo.com/upload/media/product/products/datasheet/rchip/PYu-RC_Group_51_RoHS_L_12.pdf
footprint RESC1005X40N
pins: 1, 2

## RES-74.1
designator R?, comment Resistance: 74.1  Power: 1/10W  (hidden comment: RN73R1JTTD74R1B25)
74.1 Ohms ±0.1% 0.1W, 1/10W Chip Resistor 0603 (1608 Metric) Automotive AEC-Q200, Moisture Resistant Thin Film; ComponentLink1Description: Datasheet; ComponentLink1URL: https://www.koaspeer.com/pdfs/RN73R.pdf
footprint RES_RN73R_1J_KOA
pins: 1, 2

## RES-92k
designator R?, comment Resistance: 92k  Power: 1/16W  (hidden comment: RT0402BRD0792KL)
92 kOhms ±0.1% 0.063W, 1/16W Chip Resistor 0402 (1005 Metric) Thin Film; ComponentLink1Description: Datasheet; ComponentLink1URL: https://www.yageo.com/upload/media/product/app/datasheet/rchip/pyu-rt_1-to-0.01_rohs_l.pdf
footprint RESC1005X35N
pins: 1, 2

## RES-100k
designator R?, comment Resistance: 100k  Power: 1/4W  (hidden comment: MFR-25FTF52-100K)
100 kOhms ±1% 0.25W, 1/4W Through Hole Resistor Axial Metal Film; ComponentLink1Description: Datasheet; ComponentLink1URL: https://www.yageo.com/upload/media/product/app/datasheet/lr/yageo-mfr_datasheet.pdf
footprint RES-1/4W-THRHOLE
pins: 1, 2

## RES-150k
designator R?, comment Resistance: 150k  Power: 2/3W  (hidden comment: ERJ-P08J154V)
150 kOhms ±5% 0.667W, 2/3W Chip Resistor 1206 (3216 Metric) Automotive AEC-Q200, Pulse Withstanding Thick Film; ComponentLink1Description: Datasheet; ComponentLink1URL: https://industrial.panasonic.com/cdbs/www-data/pdf/RDO0000/AOA0000C331.pdf
footprint RES_ERJP08J154V
pins: 1, 2

## RES-200m
designator R?, comment Resistance: 200m  Power: 2W  (hidden comment: CRM2512-JX-R200ELF)
200 mOhms ±5% 2W Chip Resistor 2512 (6432 Metric) Current Sense Thick Film; ComponentLink1Description: Datasheet; ComponentLink1URL: https://www.bourns.com/docs/product-datasheets/crm.pdf
footprint RESC6331X80N
pins: 1, 2

## RES-240-2W
designator R?, comment Resistance: 240  Power: 2W  (hidden comment: 3521240RFT)
240 Ohms ±1% 2W Chip Resistor 2512 (6332 Metric) Automotive AEC-Q200, Moisture Resistant Thick Film; ComponentLink1Description: Datasheet; ComponentLink1URL: https://www.te.com/commerce/DocumentDelivery/DDEController?Action=srchrtrv&DocNm=9-1773463-5&DocType=DS&DocLang=English
footprint RESC6332X65N
pins: 1, 2

## RES-240k-2/3W
designator R?, comment Resistance: 240k  Power: 2/3W  (hidden comment: ERJ-P08F2403V)
240 kOhms ±1% 0.667W, 2/3W Chip Resistor 1206 (3216 Metric) Automotive AEC-Q200, Pulse Withstanding Thick Film; ComponentLink1Description: Datasheet; ComponentLink1URL: https://industrial.panasonic.com/cdbs/www-data/pdf/RDO0000/AOA0000C331.pdf
footprint RES_ERJP08F2403V
pins: 1, 2

## RES-300m
designator R?, comment Resistance: 300m  Power: 2W  (hidden comment: CSRN2512FKR300)
300 mOhms ±1% 2W Chip Resistor 2512 (6432 Metric) Automotive AEC-Q200, Current Sense Thick Film; ComponentLink1Description: Datasheet; ComponentLink1URL: https://www.seielect.com/catalog/sei-csr_csrn.pdf
footprint STA_CSRN2512_STP
pins: 1, 2

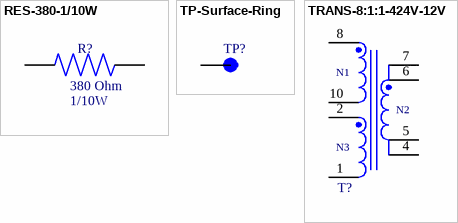
[diagram p2: symbols RES-380-1/10W to TRANS-8:1:1-424V-12V]

## RES-380-1/10W
designator R?, comment Parameter 1: 380 Ohm  Parameter 2: 1/10W  (hidden comment: RN73H1JTTD3790D100)
379 Ohms ±0.5% 0.1W, 1/10W Chip Resistor 0603 (1608 Metric) Automotive AEC-Q200, Moisture Resistant Metal Film; Package: None; Price: None; Value: *; MP: RN73H1JTTD3790D100; Availability: Unavailable; ComponentLink1Description: Datasheet; ComponentLink1URL: https://www.koaspeer.com/pdfs/RN73H.pdf
footprint RESC1608X55N
pins: 1, 2

## TP-Surface-Ring
designator TP?, comment 5016  (value not drawn)
Test Point Compact SMT Phos Bronze/Silver 1000pc Tape & Reel | Keystone Electronics 5016; SnapEDA_Link: https://www.snapeda.com/parts/5016/Keystone/view-part/?ref=snap; Package: NON STANDARD-1 Keystone; Value: *; MF: Keystone Electronics; MP: 5016; Check_prices: https://www.snapeda.com/parts/5016/Keystone/view-part/?ref=eda
footprint KEYSTONE_5016
pins: TP

## TRANS-8:1:1-424V-12V
designator T?, comment 750317589  (value not drawn)
WE-OLLT Offline Flyback Transformer, THT, RM10, Ui = 71 - 424V, Uo = 12V / 3A; Manufacturer: Wurth Elektronik; Inductance: 670uH; Input Voltage: 71 - 424V (AC); Insulation Test Voltage: 3000V (AC); Switching Frequency: 140kHz; Manufacturer Part Number: 750317589; Category: Transformers For AC-DC Converter; Match Code: WE-OLLT; ComponentLink1Description: Website Link; ComponentLink1URL: https://www.we-online.com/redexpert/article/750317589?ad; ComponentLink2Description: Datasheet Link; ComponentLink2URL: https://www.we-online.com/redexpert/spec/750317589?ad; Mount: Through Hole; Operating Temperature Max: 125°C; Operating Temperature Min: -40°C; Packaging: Tray; Case/Size Code: RM10; Length: 31.5mm; Width: 31.5mm; Height: 20.5mm; Auxiliary Voltage: 12V; Output Current: 3A; Output Voltage: 12V; Saturation Current: 3A
footprint RM10_750317589
pins: 1, 2, 4, 5, 6, 7, 8, 10
text: N1; N2; N3